# Altium schematic symbol library FSUSB42MUX.SchLib: 1 symbol
Pins are listed as number, name and electrical type; pins without a type are passive.

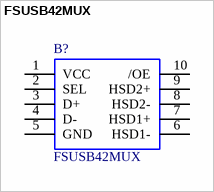
[diagram p0: symbol FSUSB42MUX]

## FSUSB42MUX
designator B?
15A Maximum ICCT over and Expanded Control Voltage Range (VIN= 1.8V, VCC= 4.3V) ; Packaged in: ; Low On Resistance: 3.9 Typical ; 8kV ESD Rating, >16kV Power/GND ESD Rating ; 10-Lead MSOP ; Low Power Consumption: 1A Maximum ; Wide -3dB Bandwitch: > 720MHz ; Low On Capacitance: 3.7pF Typical ; Over-Voltage Tolerance (OVT) on all USB Ports Up to 5.25V without External Components; 10-Lead UMLP (1.4 x 1.8mm); Manufacturer_Name: onsemi; Geometry.Height: 1.1mm; Manufacturer_Part_Number: FSUSB42MUX; Mouser Part Number: 512-FSUSB42MUX; Mouser Price/Stock: https://www.mouser.co.uk/ProductDetail/onsemi-Fairchild/FSUSB42MUX?qs=yA6kp8fx8Y59RAD4iJDRWg%3D%3D; Arrow Part Number: FSUSB42MUX; Arrow Price/Stock: https://www.arrow.com/en/products/fsusb42mux/on-semiconductor?utm_currency=USD&region=nac; Datasheet Link: https://www.onsemi.com/pub/Collateral/FSUSB42-D.PDF
footprint SOP50P490X110-10N
pins: 1 VCC, 2 SEL, 3 D+, 4 D-, 5 GND, 6 HSD1-, 7 HSD1+, 8 HSD2-, 9 HSD2+, 10 /OE